# Altium schematic symbol library PlumPot_Library.SchLib: 2 symbols
Pins are listed as number, name and electrical type; pins without a type are passive.

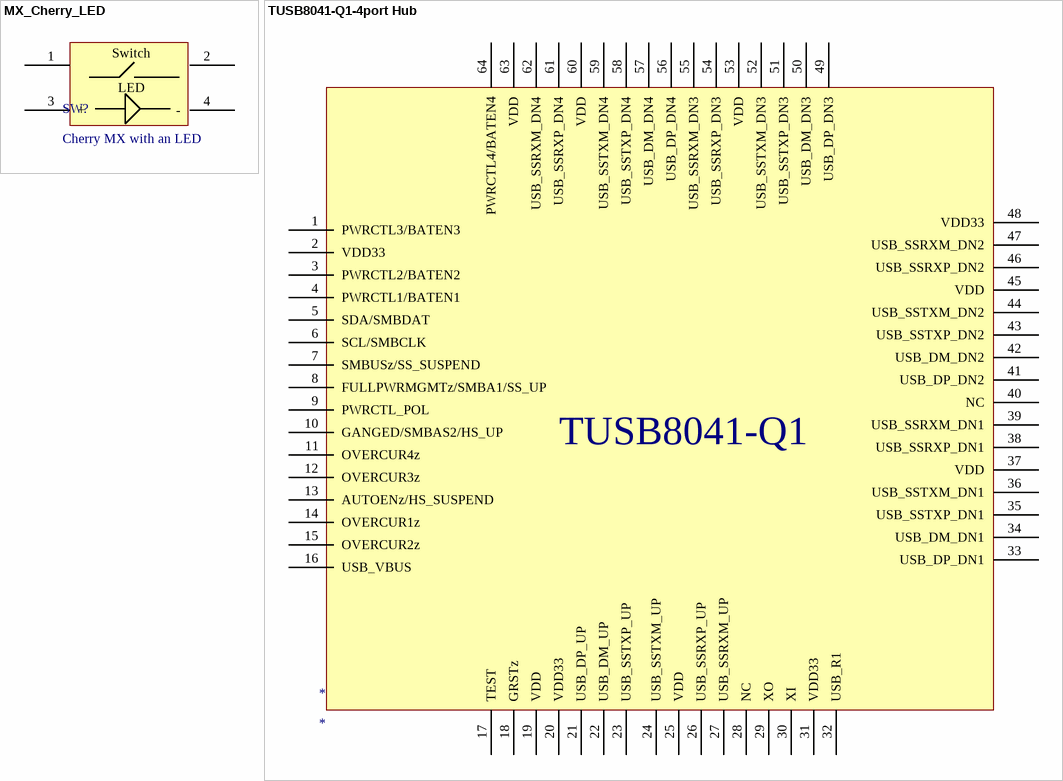
[diagram p0: symbols MX_Cherry_LED to TUSB8041-Q1-4port Hub]

## MX_Cherry_LED
designator SW?, comment Cherry MX with an LED
footprint MX_Cherry_LED (Cherry Key Pad with LED)
pins: 1, 2, 3 +, 4 -
text: Switch; LED

## TUSB8041-Q1-4port Hub
designator *
footprint TSQFP50P1200X1200X120-64N (TSQFP, 64-Leads, Body 10,00x10,00mm, Pitch 0,50mm, IPC Medium Density)
pins: 1 PWRCTL3/BATEN3, 2 VDD33, 3 PWRCTL2/BATEN2, 4 PWRCTL1/BATEN1, 5 SDA/SMBDAT, 6 SCL/SMBCLK, 7 SMBUSz/SS_SUSPEND, 8 FULLPWRMGMTz/SMBA1/SS_UP, 9 PWRCTL_POL, 10 GANGED/SMBAS2/HS_UP, 11 OVERCUR4z, 12 OVERCUR3z, 13 AUTOENz/HS_SUSPEND, 14 OVERCUR1z, 15 OVERCUR2z, 16 USB_VBUS, 17 TEST, 18 GRSTz, 19 VDD, 20 VDD33, 21 USB_DP_UP, 22 USB_DM_UP, 23 USB_SSTXP_UP, 24 USB_SSTXM_UP, 25 VDD, 26 USB_SSRXP_UP, 27 USB_SSRXM_UP, 28 NC, 29 XO, 30 XI, 31 VDD33, 32 USB_R1, 33 USB_DP_DN1, 34 USB_DM_DN1, 35 USB_SSTXP_DN1, 36 USB_SSTXM_DN1, 37 VDD, 38 USB_SSRXP_DN1, 39 USB_SSRXM_DN1, 40 NC, 41 USB_DP_DN2, 42 USB_DM_DN2, 43 USB_SSTXP_DN2, 44 USB_SSTXM_DN2, 45 VDD, 46 USB_SSRXP_DN2, 47 USB_SSRXM_DN2, 48 VDD33, 49 USB_DP_DN3, 50 USB_DM_DN3, 51 USB_SSTXP_DN3, 52 USB_SSTXM_DN3, 53 VDD, 54 USB_SSRXP_DN3, 55 USB_SSRXM_DN3, 56 USB_DP_DN4, 57 USB_DM_DN4, 58 USB_SSTXP_DN4, 59 USB_SSTXM_DN4, 60 VDD, 61 USB_SSRXP_DN4, 62 USB_SSRXM_DN4, 63 VDD, 64 PWRCTL4/BATEN4
text: TUSB8041-Q1